# Altium schematic symbol library BQ24172.Schlib: 1 symbol
Pins are listed as number, name and electrical type; pins without a type are passive.

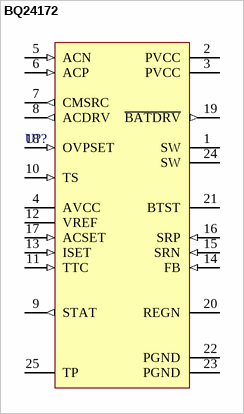
[diagram p0: symbol BQ24172]

## BQ24172
designator U??
pins: 1 SW (power), 2 PVCC (power), 3 PVCC (power), 4 AVCC (power), 5 ACN (in), 6 ACP (in), 7 CMSRC (out), 8 ACDRV (out), 9 STAT (out), 10 TS (in), 11 TTC (in), 12 VREF (power), 13 ISET (in), 14 FB (in), 15 SRN (in), 16 SRP (in), 17 ACSET (in), 18 OVPSET (in), 19 ~{BATDRV} (out), 20 REGN (power), 21 BTST (power), 22 PGND (power), 23 PGND (power), 24 SW (power), 25 TP (power)